# Altium schematic symbol library 0901301106.SchLib: 1 symbol
Pins are listed as number, name and electrical type; pins without a type are passive.

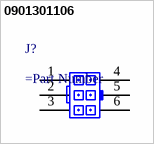
[diagram p0: symbol 0901301106]

## 0901301106
designator J?
=Description
pins: 1, 2, 3, 4, 5, 6